# Altium footprint library E73-2G4M08S1C.PcbLib: 1 footprints
Each footprint in its own frame and in the unit in brackets; x right, y up, seen from the top. Pads: shape width x height; smd on the part's side, far side on the other; paste and mask are expansions set on the pad; w line width, h text height; cw(c..) or ccw(c..) is an arc to the next point about the centre after c.
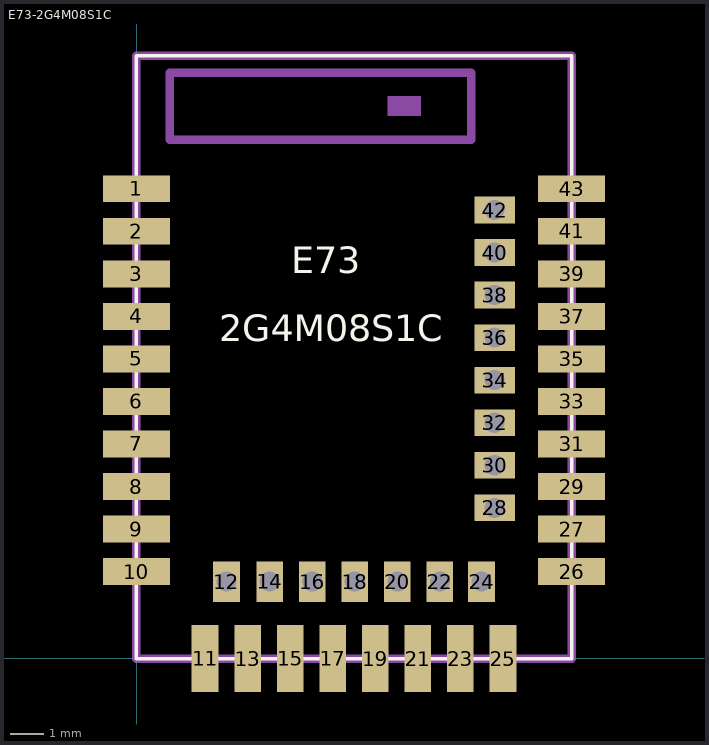
[diagram p0: the footprint, top view; thin cyan lines are the x and y axes]

## E73-2G4M08S1C [mm]
pads (43):
  rect 2x0.8 smd: 1(-0.016,14.014) 2(-0.016,12.744) 3(-0.016,11.474) 4(-0.016,10.204) 5(-0.016,8.934) 6(-0.016,7.664) 7(-0.016,6.394) 8(-0.016,5.124) 9(-0.016,3.854) 10(-0.016,2.584) 26(12.984,2.584) 27(12.984,3.854) 29(12.984,5.124) 31(12.984,6.394) 33(12.984,7.664) 35(12.984,8.934) 37(12.984,10.204) 39(12.984,11.474) 41(12.984,12.744) 43(12.984,14.014)
  rect 0.8x2 smd: 11(2.039,-0.016) 13(3.309,-0.016) 15(4.579,-0.016) 17(5.849,-0.016) 19(7.119,-0.016) 21(8.389,-0.016) 23(9.659,-0.016) 25(10.929,-0.016)
  rect 0.8x1.2 hole 0.6: 12(2.674,2.284) 14(3.967,2.284) 16(5.237,2.284) 18(6.507,2.284) 20(7.777,2.284) 22(9.047,2.284) 24(10.294,2.284)
  rect 1.2x0.8 hole 0.6: 28(10.684,4.489) 30(10.684,5.759) 32(10.684,7.029) 34(10.684,8.299) 36(10.684,9.569) 38(10.684,10.839) 40(10.684,12.109) 42(10.684,13.379)
Top Overlay:
  lines w0.1: -0.016,-0.016 12.984,-0.016 12.984,17.984 -0.016,17.984 -0.016,-0.016
  text "E73" at 4.616,11.49 h0.8
  text "2G4M08S1C" at 2.457,9.458 h0.8
Mechanical 15:
  rectangle: 7.484,16.184 8.484,16.784
  lines w0.254: -0.016,-0.016 12.984,-0.016 12.984,17.984 -0.016,17.984 -0.016,-0.016 ; 0.984,15.484 9.984,15.484 9.984,17.484 0.984,17.484 0.984,15.484